# Altium footprint library SMA_CONNECTOR.PcbLib: 1 footprints
Each footprint in its own frame and in the unit in brackets; x right, y up, seen from the top. Pads: shape width x height; smd on the part's side, far side on the other; paste and mask are expansions set on the pad; w line width, h text height; cw(c..) or ccw(c..) is an arc to the next point about the centre after c.
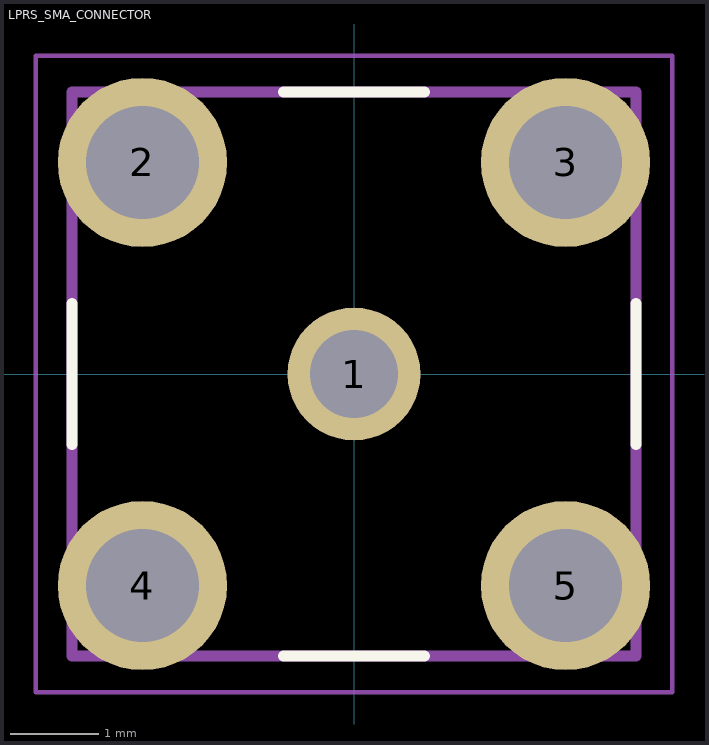
[diagram p0: the footprint, top view; thin cyan lines are the x and y axes]

## LPRS_SMA_CONNECTOR [mm]
pads (5):
  round 1.508 hole 1: 1(0,0)
  round 1.92 hole 1.28: 2(-2.4,2.4) 3(2.4,2.4) 4(-2.4,-2.4) 5(2.4,-2.4)
Top Overlay:
  lines w0.127: -3.2,-0.8 -3.2,0.8 ; -0.8,-3.2 0.8,-3.2 ; -0.8,3.2 0.8,3.2 ; 3.2,-0.8 3.2,0.8
Mechanical 1:
  lines w0.05: -3.61,-3.61 -3.61,3.61 3.61,3.61 3.61,-3.61 -3.61,-3.61
  lines w0.127: -3.2,-3.2 3.2,-3.2 3.2,3.2 -3.2,3.2 -3.2,-3.2